# Altium schematic symbol library MMSZ5232B+.SchLib: 1 symbol
Pins are listed as number, name and electrical type; pins without a type are passive.

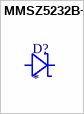
[diagram p0: symbol MMSZ5232B+]

## MMSZ5232B+
designator D?
Zener Diode 5.6V 500mW Â±5% Surface Mount SOD-123; MP: MMSZ5232B; MF: ON Semiconductor; Package: SOD-123 Fairchild Semiconductor; Check_prices: https://www.snapeda.com/parts/MMSZ5232B/ON%20Semiconductor/view-part/345101/?ref=eda; Value: *; SnapEDA_Link: https://www.snapeda.com/parts/MMSZ5232B/ON%20Semiconductor/view-part/345101/?ref=snap; Availability: Bad; Price: None
footprint SOD123
pins: 1 C, 2 A